# Altium schematic symbol library Project Capacitors.SchLib: 15 symbols
Pins are listed as number, name and electrical type; pins without a type are passive.

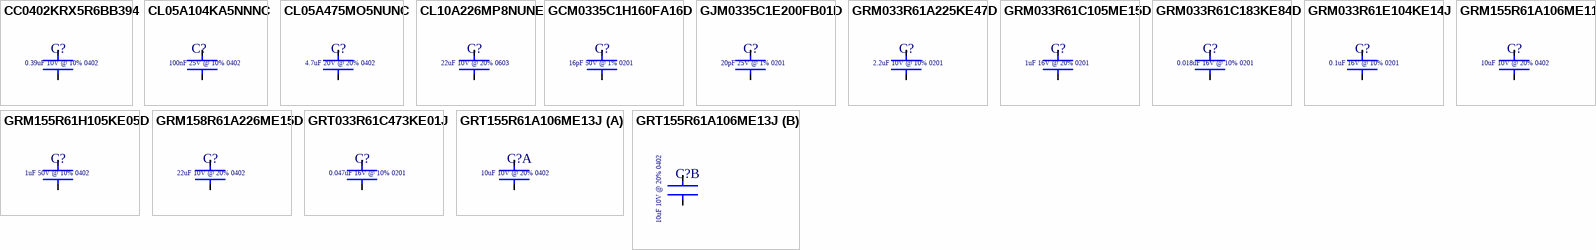
[diagram p0: symbols CC0402KRX5R6BB394 to GRT155R61A106ME13J]

## CC0402KRX5R6BB394
designator C?
0.39 µF ±10% 10V Ceramic Capacitor X5R 0402 (1005 Metric); ComponentLink1Description: New link; ComponentLink1URL: https://www.digikey.com.au/en/products/detail/yageo/CC0402KRX5R6BB394/20376267; Supplier 1: Digikey; Supplier Part Number 1: 13-CC0402KRX5R6BB394CT-ND
footprint CAPC1005X06L (Chip Capacitor, Body 1.0x0.5mm, IPC High Density (0402 Imperial))
pins: 1, 2
text: 0.39uF 10V @ 10% 0402

## CL05A104KA5NNNC
designator C?  (value not drawn)
0.1 µF ±10% 25V Ceramic Capacitor X5R 0402 (1005 Metric)
footprint CAPC1005X06N (Chip Capacitor, Body 1.0x0.5mm, IPC Medium Density (0402 Imperial))
pins: 1, 2
text: 100nF 25V @ 10% 0402

## CL05A475MO5NUNC
designator C?, comment 4.7uF  (value not drawn)
4.7 µF ±20% 16V Ceramic Capacitor X5R 0402 (1005 Metric); Supplier 1: Avnet; Supplier Part Number 1: 82AC9197
footprint CAPC1005X06L (Chip Capacitor, Body 1.0x0.5mm, IPC High Density (0402 Imperial))
pins: 1, 2
text: 4.7uF 20V @ 20% 0402

## CL10A226MP8NUNE
designator C?  (value not drawn)
22 µF ±20% 10V Ceramic Capacitor X5R 0603 (1608 Metric)
footprint CAPC1608X09N (Chip Capacitor, Body 1.6x0.8mm, IPC Medium Density (0603 Imperial))
pins: 1, 2
text: 22uF 10V @ 20% 0603

## GCM0335C1H160FA16D
designator C?  (value not drawn)
16 pF ±1% 50V Ceramic Capacitor C0G, NP0 0201 (0603 Metric); ComponentLink1Description: New link; ComponentLink1URL: https://www.digikey.com.au/en/products/detail/murata-electronics/GCM0335C1H160FA16D/17844782; Supplier 1: Mouser; Supplier Part Number 1: 81-GCM0335C1H160FA6D
footprint CAPC0603X03L (Chip Capacitor, Body 0.6x0.3mm, IPC High Density (0201 Imperial))
pins: 1, 2
text: 16pF 50V @ 1% 0201

## GJM0335C1E200FB01D
designator C?  (value not drawn)
20 pF ±1% 25V Ceramic Capacitor C0G, NP0 0201 (0603 Metric); ComponentLink1Description: New link; ComponentLink1URL: https://www.digikey.com.au/en/products/detail/murata-electronics/GJM0335C1E200FB01D/10702837; Supplier 1: Mouser; Supplier Part Number 1: 81-GJM0335C1E200FB1D
footprint RESC0603X03L (Chip Resistor, Body 0.6x0.3mm, IPC High Density (0201 Imperial))
pins: 1, 2
text: 20pF 25V @ 1% 0201

## GRM033R61A225KE47D
designator C?  (value not drawn)
2.2 µF ±10% 10V Ceramic Capacitor X5R 0201 (0603 Metric); ComponentLink1Description: New link; ComponentLink1URL: https://www.digikey.com.au/en/products/detail/murata-electronics/GRM033R61A225KE47D/5877390; Supplier 1: Mouser; Supplier Part Number 1: 81-GRM033R61A225KE7D
footprint CAPC0603X03L (Chip Capacitor, Body 0.6x0.3mm, IPC High Density (0201 Imperial))
pins: 1, 2
text: 2.2uF 10V @ 10% 0201

## GRM033R61C105ME15D
designator C?  (value not drawn)
1 µF ±20% 16V Ceramic Capacitor X5R 0201 (0603 Metric); ComponentLink1Description: New link; ComponentLink1URL: https://www.digikey.com.au/en/products/detail/murata-electronics/GRM033R61C105ME15D/10326307; Supplier 1: Digikey; Supplier Part Number 1: 490-18654-1-ND
footprint CAPC0603X03L (Chip Capacitor, Body 0.6x0.3mm, IPC High Density (0201 Imperial))
pins: 1, 2
text: 1uF 16V @ 20% 0201

## GRM033R61C183KE84D
designator C?  (value not drawn)
0.018 µF ±10% 16V Ceramic Capacitor X5R 0201 (0603 Metric); ComponentLink1Description: New link; ComponentLink1URL: https://www.digikey.com.au/en/products/detail/murata-electronics/GRM033R61C183KE84D/5027499; Supplier 1: Mouser; Supplier Part Number 1: 81-GRM33R61C183KE84D
footprint CAPC0603X03L (Chip Capacitor, Body 0.6x0.3mm, IPC High Density (0201 Imperial))
pins: 1, 2
text: 0.018uF 16V @ 10% 0201

## GRM033R61E104KE14J
designator C?, comment 0.1uF  (value not drawn)
0.1 µF ±10% 25V Ceramic Capacitor X5R 0201 (0603 Metric)0.1 µF ±10% 25V Ceramic Capacitor X5R 0201 (0603 Metric); ComponentLink1Description: New link; ComponentLink1URL: https://www.digikey.com.au/en/products/detail/murata-electronics/GRM033R61E104KE14J/4904732?s=N4IgTCBcDaIOICUCyAGAzGhA2AjAURxQBYBpAogKRAF0BfIA; Supplier 1: Mouser; Supplier Part Number 1: 81-GRM033R61E104KE4J
footprint CAPC0603X03L (Chip Capacitor, Body 0.6x0.3mm, IPC High Density (0201 Imperial))
pins: 1, 2
text: 0.1uF 16V @ 10% 0201

## GRM155R61A106ME11D
designator C?  (value not drawn)
10 µF ±20% 10V Ceramic Capacitor X5R 0402 (1005 Metric)
footprint CAPC1005X06L (Chip Capacitor, Body 1.0x0.5mm, IPC High Density (0402 Imperial))
pins: 1, 2
text: 10uF 10V @ 20% 0402

## GRM155R61H105KE05D
designator C?  (value not drawn)
1 µF ±10% 50V Ceramic Capacitor X5R 0402 (1005 Metric); ComponentLink1Description: New link; ComponentLink1URL: https://www.digikey.com.au/en/products/detail/murata-electronics/GRM155R61H105KE05D/13531808; Supplier 1: Mouser; Supplier Part Number 1: 81-GRM155R61H105KE5D
footprint CAPC1005X06L (Chip Capacitor, Body 1.0x0.5mm, IPC High Density (0402 Imperial))
pins: 1, 2
text: 1uF 50V @ 10% 0402

## GRM158R61A226ME15D
designator C?  (value not drawn)
22uH 0402; ComponentLink1Description: New link; ComponentLink1URL: https://www.digikey.com.au/en/products/detail/murata-electronics/GRM158R61A226ME15D/16033379; Supplier 1: Digikey; Supplier Part Number 1: 490-GRM158R61A226ME15DCT-ND
footprint CAPC1005X06L (Chip Capacitor, Body 1.0x0.5mm, IPC High Density (0402 Imperial))
pins: 1, 2
text: 22uF 10V @ 20% 0402

## GRT033R61C473KE01J
designator C?  (value not drawn)
0.047 µF ±10% 16V Ceramic Capacitor X5R 0201 (0603 Metric); Supplier 1: DigiKey; Supplier Part Number 1: 490-GRT033R61C473KE01JCT-ND
footprint CAPC0603X03L (Chip Capacitor, Body 0.6x0.3mm, IPC High Density (0201 Imperial))
pins: 1, 2
text: 0.047uF 16V @ 10% 0201

## GRT155R61A106ME13J
designator C?  (value not drawn)
10 µF ±20% 10V Ceramic Capacitor X5R 0402 (1005 Metric); ComponentLink1Description: New link; ComponentLink1URL: https://www.digikey.com.au/en/products/detail/murata-electronics/GRT155R61A106ME13J/19115510; Supplier 1: Avnet; Supplier Part Number 1: 82AC9197
footprint CAPC1005X06L (Chip Capacitor, Body 1.0x0.5mm, IPC High Density (0402 Imperial))
part A pins: 1, 2
part B pins: 1, 2
part A text: 10uF 10V @ 20% 0402
part B text: 10uF 10V @ 20% 0402